# Altium integrated library TI Data Converters Digital to Analog Converter.IntLib: 1533 symbols (part 10 of 99)
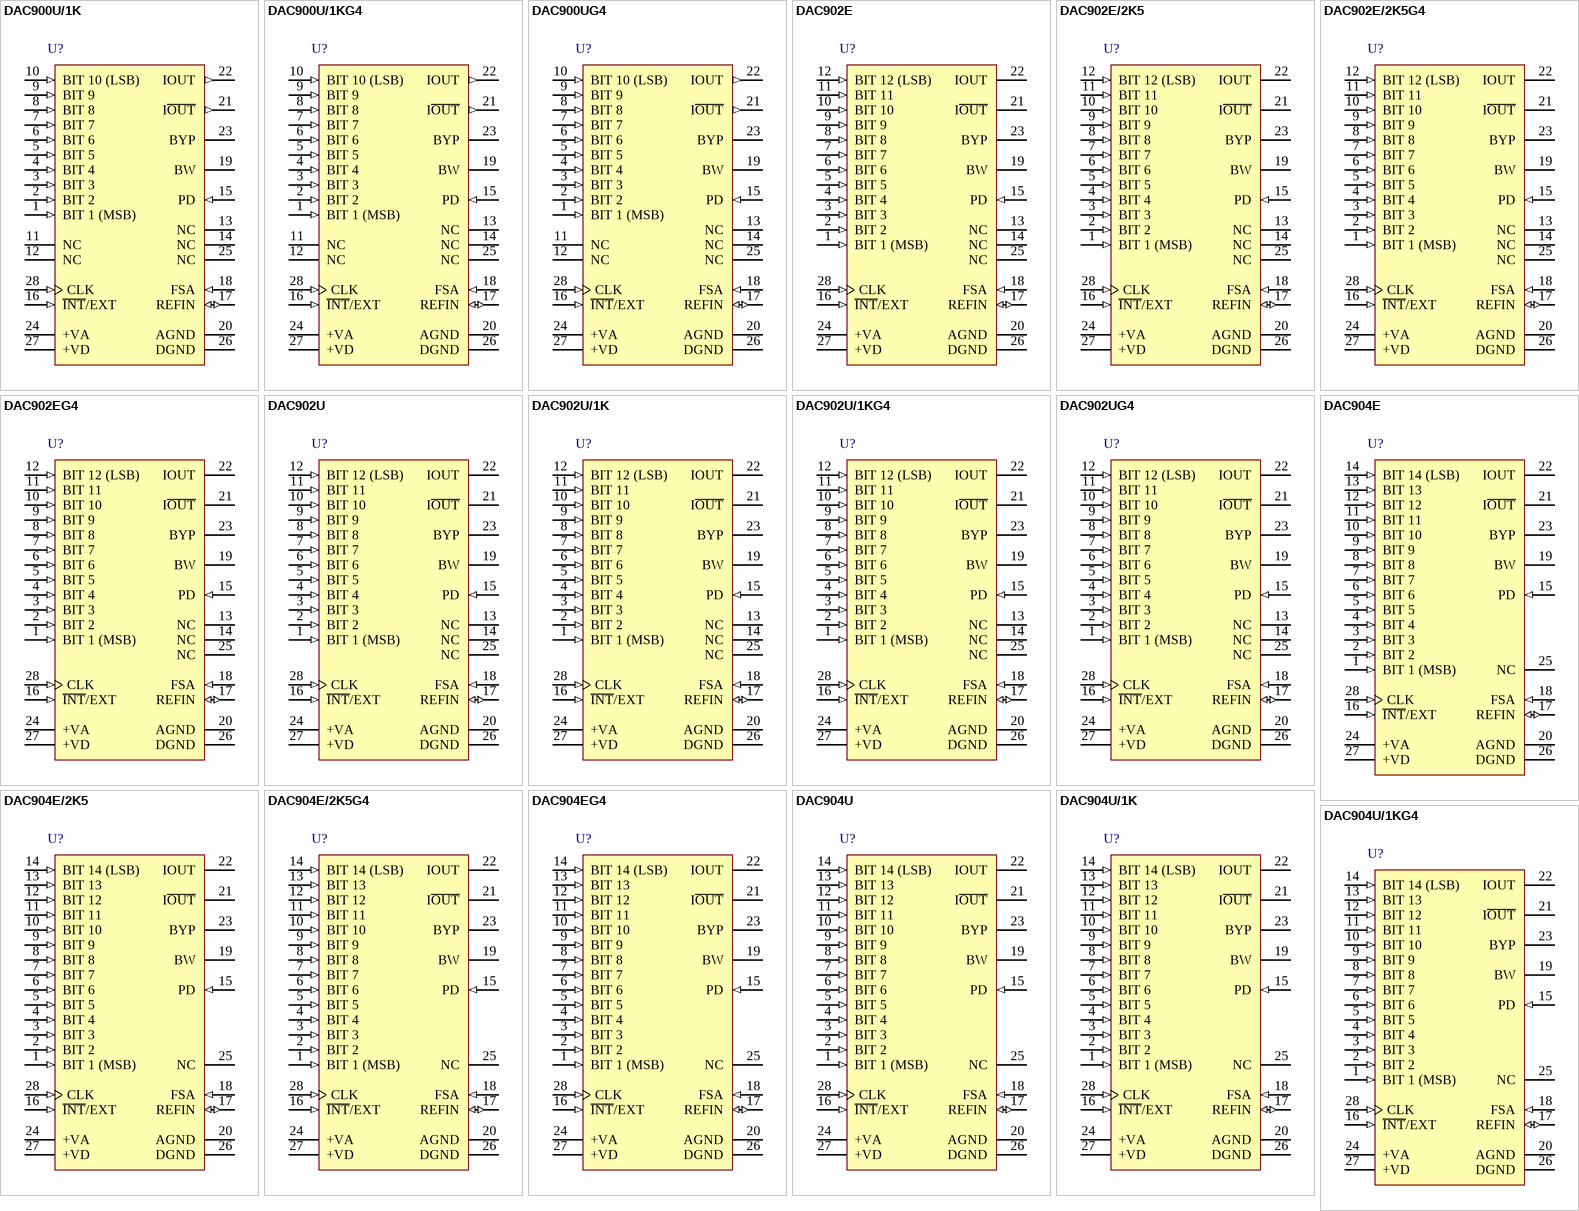
[diagram p82: symbols DAC900U/1K to DAC904U/1KG4]

## DAC904U/1KG4
designator U?
14-Bit, 165 MSPS SpeedPlus(TM) DAC Scalable Current Outputs between 2 to 20 mA, -40 to 85 degC, 28-pin SOIC (DW28), Green (RoHS & no Sb/Br); Manufacturer: Texas Instruments; PartNumber: DAC904U/1KG4; DAC Channels: 1; Interface: Parallel CMOS; Power Consumption(Typ)(mW): 170; Resolution(Bits): 14; Settling Time(us): 0.03; SFDR(dB): 76; SubFamily: High Speed DAC (>10MSPS); DatasheetVersion: SBAS095C; PackageVersion: 4040000-6/G, 01/2011; PackageReference: DW28; PackageDescription: 28-Pin Plastic Small Outline, Body 17.90 x 7.50 mm, Pitch 1.27 mm; Supplier 1: Digi-Key; Supplier Part Number 1: DAC904U/1KG4-ND; Supplier 2: Mouser; Supplier Part Number 2: 595-DAC904U/1KG4; Eco-Plan: Green (RoHS & no Sb/Br); Mounting Technology: Surface Mount; Code_JEDEC: MS-013; ComponentLink1Description: Manufacturer URL; ComponentLink1URL: http://www.ti.com/; ComponentLink2Description: Datasheet; ComponentLink2URL: http://www.ti.com/general/docs/lit/getliterature.tsp?genericPartNumber=DAC904&fileType=pdf; ComponentLink3Description: Package Specification; ComponentLink3URL: http://www.ti.com/lit/ml/mpds175a/mpds175a.pdf
footprint TI-DW28_N (SOIC, 28-Leads, Body 17.9x7.5mm, Pitch 1.27mm, IPC Medium Density)
footprint TI-DW28_L (SOIC, 28-Leads, Body 17.9x7.5mm, Pitch 1.27mm, IPC High Density)
footprint TI-DW28_M (SOIC, 28-Leads, Body 17.9x7.5mm, Pitch 1.27mm, IPC Low Density)
pins: 1 BIT 1 (MSB) (in) "Data Bit 1 (D13), MSB", 2 BIT 2 (in) "Data Bit 2 (D12)", 3 BIT 3 (in) "Data Bit 3 (D11)", 4 BIT 4 (in) "Data Bit 4 (D10)", 5 BIT 5 (in) "Data Bit 5 (D9)", 6 BIT 6 (in) "Data Bit 6 (D8)", 7 BIT 7 (in) "Data Bit 7 (D7)", 8 BIT 8 (in) "Data Bit 8 (D6)", 9 BIT 9 (in) "Data Bit 9 (D5)", 10 BIT 10 (in) "Data Bit 10 (D4)", 11 BIT 11 (in) "Data Bit 11 (D3)", 12 BIT 12 (in) "Data Bit 12 (D2)", 13 BIT 13 (in) "Data Bit 13 (D1)", 14 BIT 14 (LSB) (in) "Data Bit 14 (D0), LSB", 15 PD (in) "Power Down, Control Input; Active HIGH. Contains internal pull-down circuit; may be left unconnected if not used.", 16 ~{INT}/EXT (in) "Reference Select Pin; Internal ( = 0) or External ( = 1) Reference Operation", 17 REFIN (io) "Reference Input/Ouput. See Applications section for further details.", 18 FSA (in) "Full-Scale Output Adjust", 19 BW "Bandwidth/Noise Reduction Pin: Bypass with 0.1uF to +VA for Optimum Performance. (Optional)", 20 AGND (power) "Analog Ground", 21 I~{OUT} (hiz) "Complementary DAC Current Output", 22 IOUT (hiz) "DAC Current Output", 23 BYP "Bypass Node: Use 0.1uF to AGND", 24 +VA (power) "Analog Supply Voltage, 2.7V to 5.5V", 25 NC "No Internal Connection", 26 DGND (power) "Digital Ground", 27 +VD (power) "Digital Supply Voltage, 2.7V to 5.5V", 28 CLK (in) "Clock Input"

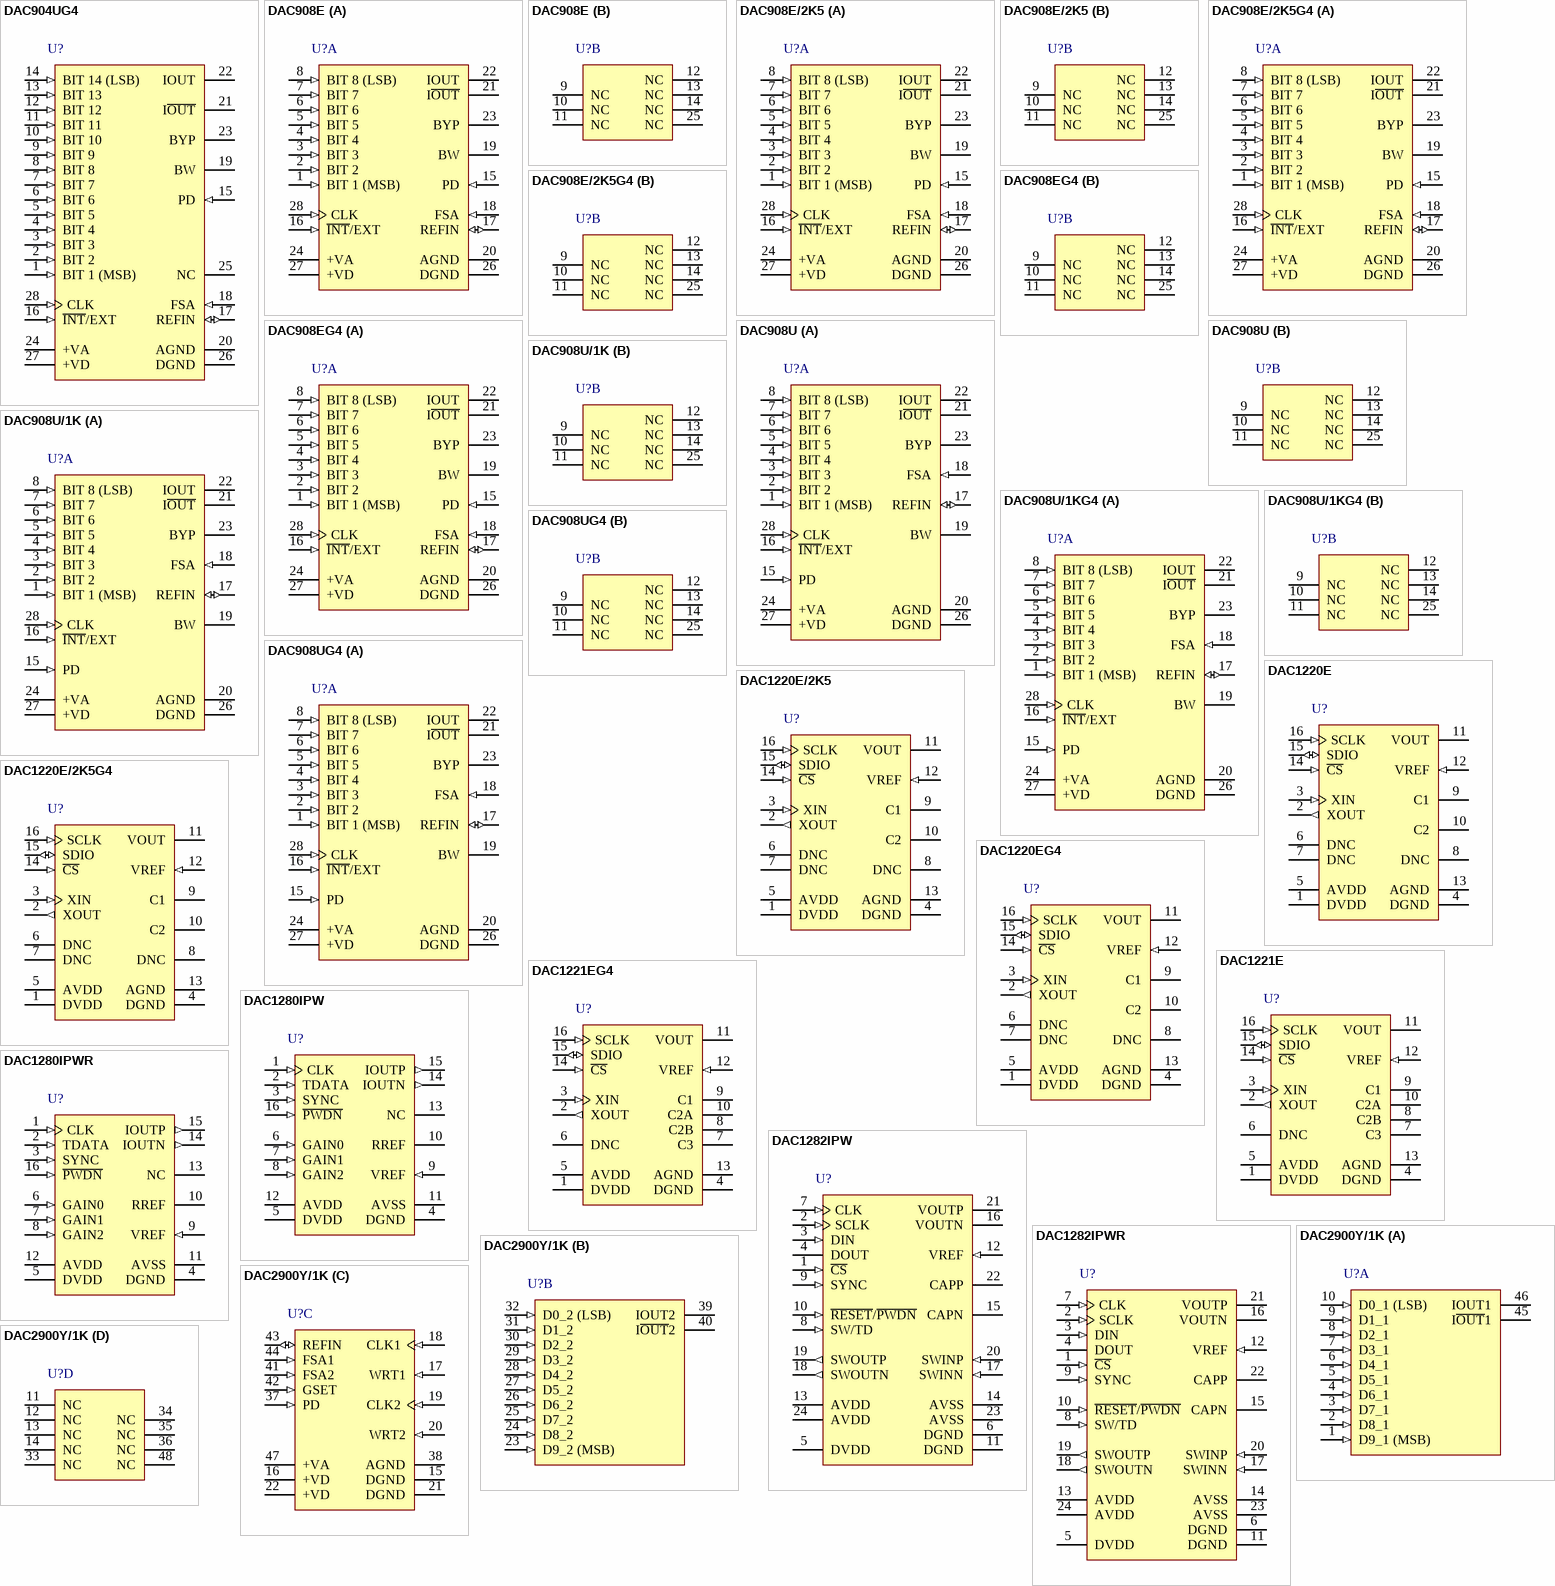
[diagram p8: symbols DAC904UG4 to DAC2900Y/1K]

## DAC904UG4
designator U?
14-Bit, 165 MSPS SpeedPlus(TM) DAC Scalable Current Outputs between 2 to 20 mA, -40 to 85 degC, 28-pin SOIC (DW28), Green (RoHS & no Sb/Br); Manufacturer: Texas Instruments; PartNumber: DAC904UG4; DAC Channels: 1; Interface: Parallel CMOS; Power Consumption(Typ)(mW): 170; Resolution(Bits): 14; Settling Time(us): 0.03; SFDR(dB): 76; SubFamily: High Speed DAC (>10MSPS); DatasheetVersion: SBAS095C; PackageVersion: 4040000-6/G, 01/2011; PackageReference: DW28; PackageDescription: 28-Pin Plastic Small Outline, Body 17.90 x 7.50 mm, Pitch 1.27 mm; Supplier 1: Digi-Key; Supplier Part Number 1: DAC904UG4-ND; Supplier 2: Farnell; Supplier Part Number 2: 1206885; Supplier 3: Newark; Supplier Part Number 3: 96K8429; Supplier 4: Mouser; Supplier Part Number 4: 595-DAC904UG4; Eco-Plan: Green (RoHS & no Sb/Br); Mounting Technology: Surface Mount; Code_JEDEC: MS-013; ComponentLink1Description: Manufacturer URL; ComponentLink1URL: http://www.ti.com/; ComponentLink2Description: Datasheet; ComponentLink2URL: http://www.ti.com/general/docs/lit/getliterature.tsp?genericPartNumber=DAC904&fileType=pdf; ComponentLink3Description: Package Specification; ComponentLink3URL: http://www.ti.com/lit/ml/mpds175a/mpds175a.pdf
footprint TI-DW28_N (SOIC, 28-Leads, Body 17.9x7.5mm, Pitch 1.27mm, IPC Medium Density)
footprint TI-DW28_L (SOIC, 28-Leads, Body 17.9x7.5mm, Pitch 1.27mm, IPC High Density)
footprint TI-DW28_M (SOIC, 28-Leads, Body 17.9x7.5mm, Pitch 1.27mm, IPC Low Density)
pins: 1 BIT 1 (MSB) (in) "Data Bit 1 (D13), MSB", 2 BIT 2 (in) "Data Bit 2 (D12)", 3 BIT 3 (in) "Data Bit 3 (D11)", 4 BIT 4 (in) "Data Bit 4 (D10)", 5 BIT 5 (in) "Data Bit 5 (D9)", 6 BIT 6 (in) "Data Bit 6 (D8)", 7 BIT 7 (in) "Data Bit 7 (D7)", 8 BIT 8 (in) "Data Bit 8 (D6)", 9 BIT 9 (in) "Data Bit 9 (D5)", 10 BIT 10 (in) "Data Bit 10 (D4)", 11 BIT 11 (in) "Data Bit 11 (D3)", 12 BIT 12 (in) "Data Bit 12 (D2)", 13 BIT 13 (in) "Data Bit 13 (D1)", 14 BIT 14 (LSB) (in) "Data Bit 14 (D0), LSB", 15 PD (in) "Power Down, Control Input; Active HIGH. Contains internal pull-down circuit; may be left unconnected if not used.", 16 ~{INT}/EXT (in) "Reference Select Pin; Internal ( = 0) or External ( = 1) Reference Operation", 17 REFIN (io) "Reference Input/Ouput. See Applications section for further details.", 18 FSA (in) "Full-Scale Output Adjust", 19 BW "Bandwidth/Noise Reduction Pin: Bypass with 0.1uF to +VA for Optimum Performance. (Optional)", 20 AGND (power) "Analog Ground", 21 I~{OUT} (hiz) "Complementary DAC Current Output", 22 IOUT (hiz) "DAC Current Output", 23 BYP "Bypass Node: Use 0.1uF to AGND", 24 +VA (power) "Analog Supply Voltage, 2.7V to 5.5V", 25 NC "No Internal Connection", 26 DGND (power) "Digital Ground", 27 +VD (power) "Digital Supply Voltage, 2.7V to 5.5V", 28 CLK (in) "Clock Input"

## DAC908E
designator U?
8-Bit, 165 MSPS SpeedPlus(TM) DAC Scalable Current Outputs between 2 to 20 mA, -40 to 85 degC, 28-pin SOP (PW28), Green (RoHS & no Sb/Br); Manufacturer: Texas Instruments; PartNumber: DAC908E; DAC Channels: 1; DNL(Max)(+/-LSB): 0.5; Interface: Parallel CMOS; Power Consumption(Typ)(mW): 170; Resolution(Bits): 8; Settling Time(us): 0.03; SFDR(dB): 67; SubFamily: High Speed DAC (>10MSPS); DatasheetVersion: SBAS109B; PackageVersion: 4040064-7/G, 02/2011; PackageReference: PW28; PackageDescription: 28-Pin Plastic Small Outline, Body 9.7 x 4.4 mm, Pitch 0.65 mm; Supplier 1: Digi-Key; Supplier Part Number 1: DAC908E-ND; Supplier 2: Newark; Supplier Part Number 2: 34K3179; Supplier 3: Mouser; Supplier Part Number 3: 595-DAC908E; Eco-Plan: Green (RoHS & no Sb/Br); INL(Max)(+/-LSB): 0.5; Mounting Technology: Surface Mount; Code_JEDEC: MO-153; ComponentLink1Description: Manufacturer URL; ComponentLink1URL: http://www.ti.com/; ComponentLink2Description: Datasheet; ComponentLink2URL: http://www.ti.com/general/docs/lit/getliterature.tsp?genericPartNumber=DAC908&fileType=pdf; ComponentLink3Description: Package Specification; ComponentLink3URL: http://www.ti.com/litv/pdf/mpds364
footprint TI-PW28_N (SOP, 28-Leads, Body 9.7x4.4mm, Pitch 0.65mm, IPC Medium Density)
footprint TI-PW28_L (SOP, 28-Leads, Body 9.7x4.4mm, Pitch 0.65mm, IPC High Density)
footprint TI-PW28_M (SOP, 28-Leads, Body 9.7x4.4mm, Pitch 0.65mm, IPC Low Density)
part A pins: 1 BIT 1 (MSB) (in) "Data Bit 1 (D7), MSB", 2 BIT 2 (in) "Data Bit 2 (D6)", 3 BIT 3 (in) "Data Bit 3 (D5)", 4 BIT 4 (in) "Data Bit 4 (D4)", 5 BIT 5 (in) "Data Bit 5 (D3)", 6 BIT 6 (in) "Data Bit 6 (D2)", 7 BIT 7 (in) "Data Bit 7 (D1)", 8 BIT 8 (LSB) (in) "Data Bit 8 (D0), LSB", 15 PD (in) "Power Down, Control Input; Active HIGH. Contains internal pull-down circuit; may be left unconnected if not used.", 16 ~{INT}/EXT (in) "Reference Select Pin; Internal ( = 0) or External ( = 1) Reference Operation.", 17 REFIN (io) "Reference Input/Ouput. See Applications section for further details.", 18 FSA (in) "Full-Scale Output Adjust", 19 BW "Bandwidth/Noise Reduction Pin: Bypass with 0.1uF to +VA for Optimum Performance.", 20 AGND (power) "Analog Ground", 21 I~{OUT} (hiz) "Complementary DAC Current Output", 22 IOUT (hiz) "DAC Current Output", 23 BYP "Bypass Node: Use 0.1uF to AGND", 24 +VA (power) "Analog Supply Voltage, 2.7V to 5.5V", 26 DGND (power) "Digital Ground", 27 +VD (power) "Digital Supply Voltage, 2.7V to 5.5V", 28 CLK (in) "Clock Input"
part B pins: 9 NC "No Connection", 10 NC "No Connection", 11 NC "No Connection", 12 NC "No Connection", 13 NC "No Connection", 14 NC "No Connection", 25 NC "No Connection"

## DAC908E/2K5
designator U?
8-Bit, 165 MSPS SpeedPlus(TM) DAC Scalable Current Outputs between 2 to 20 mA, -40 to 85 degC, 28-pin SOP (PW28), Green (RoHS & no Sb/Br); Manufacturer: Texas Instruments; PartNumber: DAC908E/2K5; DAC Channels: 1; DNL(Max)(+/-LSB): 0.5; Interface: Parallel CMOS; Power Consumption(Typ)(mW): 170; Resolution(Bits): 8; Settling Time(us): 0.03; SFDR(dB): 67; SubFamily: High Speed DAC (>10MSPS); DatasheetVersion: SBAS109B; PackageVersion: 4040064-7/G, 02/2011; PackageReference: PW28; PackageDescription: 28-Pin Plastic Small Outline, Body 9.7 x 4.4 mm, Pitch 0.65 mm; Supplier 1: Digi-Key; Supplier Part Number 1: DAC908E/2K5-ND; Supplier 2: Mouser; Supplier Part Number 2: 595-DAC908E/2K5; Eco-Plan: Green (RoHS & no Sb/Br); INL(Max)(+/-LSB): 0.5; Mounting Technology: Surface Mount; Code_JEDEC: MO-153; ComponentLink1Description: Manufacturer URL; ComponentLink1URL: http://www.ti.com/; ComponentLink2Description: Datasheet; ComponentLink2URL: http://www.ti.com/general/docs/lit/getliterature.tsp?genericPartNumber=DAC908&fileType=pdf; ComponentLink3Description: Package Specification; ComponentLink3URL: http://www.ti.com/litv/pdf/mpds364
footprint TI-PW28_N (SOP, 28-Leads, Body 9.7x4.4mm, Pitch 0.65mm, IPC Medium Density)
footprint TI-PW28_L (SOP, 28-Leads, Body 9.7x4.4mm, Pitch 0.65mm, IPC High Density)
footprint TI-PW28_M (SOP, 28-Leads, Body 9.7x4.4mm, Pitch 0.65mm, IPC Low Density)
part A pins: 1 BIT 1 (MSB) (in) "Data Bit 1 (D7), MSB", 2 BIT 2 (in) "Data Bit 2 (D6)", 3 BIT 3 (in) "Data Bit 3 (D5)", 4 BIT 4 (in) "Data Bit 4 (D4)", 5 BIT 5 (in) "Data Bit 5 (D3)", 6 BIT 6 (in) "Data Bit 6 (D2)", 7 BIT 7 (in) "Data Bit 7 (D1)", 8 BIT 8 (LSB) (in) "Data Bit 8 (D0), LSB", 15 PD (in) "Power Down, Control Input; Active HIGH. Contains internal pull-down circuit; may be left unconnected if not used.", 16 ~{INT}/EXT (in) "Reference Select Pin; Internal ( = 0) or External ( = 1) Reference Operation.", 17 REFIN (io) "Reference Input/Ouput. See Applications section for further details.", 18 FSA (in) "Full-Scale Output Adjust", 19 BW "Bandwidth/Noise Reduction Pin: Bypass with 0.1uF to +VA for Optimum Performance.", 20 AGND (power) "Analog Ground", 21 I~{OUT} (hiz) "Complementary DAC Current Output", 22 IOUT (hiz) "DAC Current Output", 23 BYP "Bypass Node: Use 0.1uF to AGND", 24 +VA (power) "Analog Supply Voltage, 2.7V to 5.5V", 26 DGND (power) "Digital Ground", 27 +VD (power) "Digital Supply Voltage, 2.7V to 5.5V", 28 CLK (in) "Clock Input"
part B pins: 9 NC "No Connection", 10 NC "No Connection", 11 NC "No Connection", 12 NC "No Connection", 13 NC "No Connection", 14 NC "No Connection", 25 NC "No Connection"

## DAC908E/2K5G4
designator U?
8-Bit, 165 MSPS SpeedPlus(TM) DAC Scalable Current Outputs between 2 to 20 mA, -40 to 85 degC, 28-pin SOP (PW28), Green (RoHS & no Sb/Br); Manufacturer: Texas Instruments; PartNumber: DAC908E/2K5G4; DAC Channels: 1; DNL(Max)(+/-LSB): 0.5; Interface: Parallel CMOS; Power Consumption(Typ)(mW): 170; Resolution(Bits): 8; Settling Time(us): 0.03; SFDR(dB): 67; SubFamily: High Speed DAC (>10MSPS); DatasheetVersion: SBAS109B; PackageVersion: 4040064-7/G, 02/2011; PackageReference: PW28; PackageDescription: 28-Pin Plastic Small Outline, Body 9.7 x 4.4 mm, Pitch 0.65 mm; Supplier 1: Digi-Key; Supplier Part Number 1: DAC908E/2K5G4-ND; Supplier 2: Mouser; Supplier Part Number 2: 595-DAC908E/2K5G4; Eco-Plan: Green (RoHS & no Sb/Br); INL(Max)(+/-LSB): 0.5; Mounting Technology: Surface Mount; Code_JEDEC: MO-153; ComponentLink1Description: Manufacturer URL; ComponentLink1URL: http://www.ti.com/; ComponentLink2Description: Datasheet; ComponentLink2URL: http://www.ti.com/general/docs/lit/getliterature.tsp?genericPartNumber=DAC908&fileType=pdf; ComponentLink3Description: Package Specification; ComponentLink3URL: http://www.ti.com/litv/pdf/mpds364
footprint TI-PW28_N (SOP, 28-Leads, Body 9.7x4.4mm, Pitch 0.65mm, IPC Medium Density)
footprint TI-PW28_L (SOP, 28-Leads, Body 9.7x4.4mm, Pitch 0.65mm, IPC High Density)
footprint TI-PW28_M (SOP, 28-Leads, Body 9.7x4.4mm, Pitch 0.65mm, IPC Low Density)
part A pins: 1 BIT 1 (MSB) (in) "Data Bit 1 (D7), MSB", 2 BIT 2 (in) "Data Bit 2 (D6)", 3 BIT 3 (in) "Data Bit 3 (D5)", 4 BIT 4 (in) "Data Bit 4 (D4)", 5 BIT 5 (in) "Data Bit 5 (D3)", 6 BIT 6 (in) "Data Bit 6 (D2)", 7 BIT 7 (in) "Data Bit 7 (D1)", 8 BIT 8 (LSB) (in) "Data Bit 8 (D0), LSB", 15 PD (in) "Power Down, Control Input; Active HIGH. Contains internal pull-down circuit; may be left unconnected if not used.", 16 ~{INT}/EXT (in) "Reference Select Pin; Internal ( = 0) or External ( = 1) Reference Operation.", 17 REFIN (io) "Reference Input/Ouput. See Applications section for further details.", 18 FSA (in) "Full-Scale Output Adjust", 19 BW "Bandwidth/Noise Reduction Pin: Bypass with 0.1uF to +VA for Optimum Performance.", 20 AGND (power) "Analog Ground", 21 I~{OUT} (hiz) "Complementary DAC Current Output", 22 IOUT (hiz) "DAC Current Output", 23 BYP "Bypass Node: Use 0.1uF to AGND", 24 +VA (power) "Analog Supply Voltage, 2.7V to 5.5V", 26 DGND (power) "Digital Ground", 27 +VD (power) "Digital Supply Voltage, 2.7V to 5.5V", 28 CLK (in) "Clock Input"
part B pins: 9 NC "No Connection", 10 NC "No Connection", 11 NC "No Connection", 12 NC "No Connection", 13 NC "No Connection", 14 NC "No Connection", 25 NC "No Connection"

## DAC908EG4
designator U?
8-Bit, 165 MSPS SpeedPlus(TM) DAC Scalable Current Outputs between 2 to 20 mA, -40 to 85 degC, 28-pin SOP (PW28), Green (RoHS & no Sb/Br); Manufacturer: Texas Instruments; PartNumber: DAC908EG4; DAC Channels: 1; DNL(Max)(+/-LSB): 0.5; Interface: Parallel CMOS; Power Consumption(Typ)(mW): 170; Resolution(Bits): 8; Settling Time(us): 0.03; SFDR(dB): 67; SubFamily: High Speed DAC (>10MSPS); DatasheetVersion: SBAS109B; PackageVersion: 4040064-7/G, 02/2011; PackageReference: PW28; PackageDescription: 28-Pin Plastic Small Outline, Body 9.7 x 4.4 mm, Pitch 0.65 mm; Supplier 1: Digi-Key; Supplier Part Number 1: DAC908EG4-ND; Supplier 2: Mouser; Supplier Part Number 2: 595-DAC908EG4; Eco-Plan: Green (RoHS & no Sb/Br); INL(Max)(+/-LSB): 0.5; Mounting Technology: Surface Mount; Code_JEDEC: MO-153; ComponentLink1Description: Manufacturer URL; ComponentLink1URL: http://www.ti.com/; ComponentLink2Description: Datasheet; ComponentLink2URL: http://www.ti.com/general/docs/lit/getliterature.tsp?genericPartNumber=DAC908&fileType=pdf; ComponentLink3Description: Package Specification; ComponentLink3URL: http://www.ti.com/litv/pdf/mpds364
footprint TI-PW28_N (SOP, 28-Leads, Body 9.7x4.4mm, Pitch 0.65mm, IPC Medium Density)
footprint TI-PW28_L (SOP, 28-Leads, Body 9.7x4.4mm, Pitch 0.65mm, IPC High Density)
footprint TI-PW28_M (SOP, 28-Leads, Body 9.7x4.4mm, Pitch 0.65mm, IPC Low Density)
part A pins: 1 BIT 1 (MSB) (in) "Data Bit 1 (D7), MSB", 2 BIT 2 (in) "Data Bit 2 (D6)", 3 BIT 3 (in) "Data Bit 3 (D5)", 4 BIT 4 (in) "Data Bit 4 (D4)", 5 BIT 5 (in) "Data Bit 5 (D3)", 6 BIT 6 (in) "Data Bit 6 (D2)", 7 BIT 7 (in) "Data Bit 7 (D1)", 8 BIT 8 (LSB) (in) "Data Bit 8 (D0), LSB", 15 PD (in) "Power Down, Control Input; Active HIGH. Contains internal pull-down circuit; may be left unconnected if not used.", 16 ~{INT}/EXT (in) "Reference Select Pin; Internal ( = 0) or External ( = 1) Reference Operation.", 17 REFIN (io) "Reference Input/Ouput. See Applications section for further details.", 18 FSA (in) "Full-Scale Output Adjust", 19 BW "Bandwidth/Noise Reduction Pin: Bypass with 0.1uF to +VA for Optimum Performance.", 20 AGND (power) "Analog Ground", 21 I~{OUT} (hiz) "Complementary DAC Current Output", 22 IOUT (hiz) "DAC Current Output", 23 BYP "Bypass Node: Use 0.1uF to AGND", 24 +VA (power) "Analog Supply Voltage, 2.7V to 5.5V", 26 DGND (power) "Digital Ground", 27 +VD (power) "Digital Supply Voltage, 2.7V to 5.5V", 28 CLK (in) "Clock Input"
part B pins: 9 NC "No Connection", 10 NC "No Connection", 11 NC "No Connection", 12 NC "No Connection", 13 NC "No Connection", 14 NC "No Connection", 25 NC "No Connection"

## DAC908U
designator U?
8-Bit, 165 MSPS SpeedPlus(TM) DAC Scalable Current Outputs between 2 to 20 mA, -40 to 85 degC, 28-pin SOIC (DW28), Green (RoHS & no Sb/Br); Manufacturer: Texas Instruments; PartNumber: DAC908U; DAC Channels: 1; DNL(Max)(+/-LSB): 0.5; Interface: Parallel CMOS; Power Consumption(Typ)(mW): 170; Resolution(Bits): 8; Settling Time(us): 0.03; SFDR(dB): 67; SubFamily: High Speed DAC (>10MSPS); DatasheetVersion: SBAS109B; PackageVersion: 4040000-6/G, 01/2011; PackageReference: DW28; PackageDescription: 28-Pin Plastic Small Outline, Body 17.90 x 7.50 mm, Pitch 1.27 mm; Supplier 1: Digi-Key; Supplier Part Number 1: DAC908U-ND; Supplier 2: Mouser; Supplier Part Number 2: 595-DAC908U; Eco-Plan: Green (RoHS & no Sb/Br); INL(Max)(+/-LSB): 0.5; Mounting Technology: Surface Mount; Code_JEDEC: MS-013; ComponentLink1Description: Manufacturer URL; ComponentLink1URL: http://www.ti.com/; ComponentLink2Description: Datasheet; ComponentLink2URL: http://www.ti.com/general/docs/lit/getliterature.tsp?genericPartNumber=DAC908&fileType=pdf; ComponentLink3Description: Package Specification; ComponentLink3URL: http://www.ti.com/lit/ml/mpds175a/mpds175a.pdf
footprint TI-DW28_N (SOIC, 28-Leads, Body 17.9x7.5mm, Pitch 1.27mm, IPC Medium Density)
footprint TI-DW28_L (SOIC, 28-Leads, Body 17.9x7.5mm, Pitch 1.27mm, IPC High Density)
footprint TI-DW28_M (SOIC, 28-Leads, Body 17.9x7.5mm, Pitch 1.27mm, IPC Low Density)
part A pins: 1 BIT 1 (MSB) (in) "Data Bit 1 (D7), MSB", 2 BIT 2 (in) "Data Bit 2 (D6)", 3 BIT 3 (in) "Data Bit 3 (D5)", 4 BIT 4 (in) "Data Bit 4 (D4)", 5 BIT 5 (in) "Data Bit 5 (D3)", 6 BIT 6 (in) "Data Bit 6 (D2)", 7 BIT 7 (in) "Data Bit 7 (D1)", 8 BIT 8 (LSB) (in) "Data Bit 8 (D0), LSB", 15 PD (in) "Power Down, Control Input; Active HIGH. Contains internal pull-down circuit; may be left unconnected if not used.", 16 ~{INT}/EXT (in) "Reference Select Pin; Internal (= 0) or External (= 1) Reference Operation.", 17 REFIN (io) "Reference Input/Ouput. See Applications section for further details.", 18 FSA (in) "Full-Scale Output Adjust", 19 BW "Bandwidth/Noise Reduction Pin: Bypass with 0.1uF to +VA for Optimum Performance.", 20 AGND (power) "Analog Ground", 21 I~{OUT} (hiz) "Complementary DAC Current Output", 22 IOUT (hiz) "DAC Current Output", 23 BYP "Bypass Node: Use 0.1uF to AGND", 24 +VA (power) "Analog Supply Voltage, 2.7V to 5.5V", 26 DGND (power) "Digital Ground", 27 +VD (power) "Digital Supply Voltage, 2.7V to 5.5V", 28 CLK (in) "Clock Input"
part B pins: 9 NC "No Connection", 10 NC "No Connection", 11 NC "No Connection", 12 NC "No Connection", 13 NC "No Connection", 14 NC "No Connection", 25 NC "No Connection"

## DAC908U/1K
designator U?
8-Bit, 165 MSPS SpeedPlus(TM) DAC Scalable Current Outputs between 2 to 20 mA, -40 to 85 degC, 28-pin SOIC (DW28), Green (RoHS & no Sb/Br); Manufacturer: Texas Instruments; PartNumber: DAC908U/1K; DAC Channels: 1; DNL(Max)(+/-LSB): 0.5; Interface: Parallel CMOS; Power Consumption(Typ)(mW): 170; Resolution(Bits): 8; Settling Time(us): 0.03; SFDR(dB): 67; SubFamily: High Speed DAC (>10MSPS); DatasheetVersion: SBAS109B; PackageVersion: 4040000-6/G, 01/2011; PackageReference: DW28; PackageDescription: 28-Pin Plastic Small Outline, Body 17.90 x 7.50 mm, Pitch 1.27 mm; Supplier 1: Digi-Key; Supplier Part Number 1: DAC908U/1K-ND; Supplier 2: Newark; Supplier Part Number 2: 74C9314; Supplier 3: Mouser; Supplier Part Number 3: 595-DAC908U/1K; Eco-Plan: Green (RoHS & no Sb/Br); INL(Max)(+/-LSB): 0.5; Mounting Technology: Surface Mount; Code_JEDEC: MS-013; ComponentLink1Description: Manufacturer URL; ComponentLink1URL: http://www.ti.com/; ComponentLink2Description: Datasheet; ComponentLink2URL: http://www.ti.com/general/docs/lit/getliterature.tsp?genericPartNumber=DAC908&fileType=pdf; ComponentLink3Description: Package Specification; ComponentLink3URL: http://www.ti.com/lit/ml/mpds175a/mpds175a.pdf
footprint TI-DW28_N (SOIC, 28-Leads, Body 17.9x7.5mm, Pitch 1.27mm, IPC Medium Density)
footprint TI-DW28_L (SOIC, 28-Leads, Body 17.9x7.5mm, Pitch 1.27mm, IPC High Density)
footprint TI-DW28_M (SOIC, 28-Leads, Body 17.9x7.5mm, Pitch 1.27mm, IPC Low Density)
part A pins: 1 BIT 1 (MSB) (in) "Data Bit 1 (D7), MSB", 2 BIT 2 (in) "Data Bit 2 (D6)", 3 BIT 3 (in) "Data Bit 3 (D5)", 4 BIT 4 (in) "Data Bit 4 (D4)", 5 BIT 5 (in) "Data Bit 5 (D3)", 6 BIT 6 (in) "Data Bit 6 (D2)", 7 BIT 7 (in) "Data Bit 7 (D1)", 8 BIT 8 (LSB) (in) "Data Bit 8 (D0), LSB", 15 PD (in) "Power Down, Control Input; Active HIGH. Contains internal pull-down circuit; may be left unconnected if not used.", 16 ~{INT}/EXT (in) "Reference Select Pin; Internal (= 0) or External (= 1) Reference Operation.", 17 REFIN (io) "Reference Input/Ouput. See Applications section for further details.", 18 FSA (in) "Full-Scale Output Adjust", 19 BW "Bandwidth/Noise Reduction Pin: Bypass with 0.1uF to +VA for Optimum Performance.", 20 AGND (power) "Analog Ground", 21 I~{OUT} (hiz) "Complementary DAC Current Output", 22 IOUT (hiz) "DAC Current Output", 23 BYP "Bypass Node: Use 0.1uF to AGND", 24 +VA (power) "Analog Supply Voltage, 2.7V to 5.5V", 26 DGND (power) "Digital Ground", 27 +VD (power) "Digital Supply Voltage, 2.7V to 5.5V", 28 CLK (in) "Clock Input"
part B pins: 9 NC "No Connection", 10 NC "No Connection", 11 NC "No Connection", 12 NC "No Connection", 13 NC "No Connection", 14 NC "No Connection", 25 NC "No Connection"

## DAC908U/1KG4
designator U?
8-Bit, 165 MSPS SpeedPlus(TM) DAC Scalable Current Outputs between 2 to 20 mA, -40 to 85 degC, 28-pin SOIC (DW28), Green (RoHS & no Sb/Br); Manufacturer: Texas Instruments; PartNumber: DAC908U/1KG4; DAC Channels: 1; DNL(Max)(+/-LSB): 0.5; Interface: Parallel CMOS; Power Consumption(Typ)(mW): 170; Resolution(Bits): 8; Settling Time(us): 0.03; SFDR(dB): 67; SubFamily: High Speed DAC (>10MSPS); DatasheetVersion: SBAS109B; PackageVersion: 4040000-6/G, 01/2011; PackageReference: DW28; PackageDescription: 28-Pin Plastic Small Outline, Body 17.90 x 7.50 mm, Pitch 1.27 mm; Supplier 1: Digi-Key; Supplier Part Number 1: DAC908U/1KG4-ND; Supplier 2: Mouser; Supplier Part Number 2: 595-DAC908U/1KG4; Eco-Plan: Green (RoHS & no Sb/Br); INL(Max)(+/-LSB): 0.5; Mounting Technology: Surface Mount; Code_JEDEC: MS-013; ComponentLink1Description: Manufacturer URL; ComponentLink1URL: http://www.ti.com/; ComponentLink2Description: Datasheet; ComponentLink2URL: http://www.ti.com/general/docs/lit/getliterature.tsp?genericPartNumber=DAC908&fileType=pdf; ComponentLink3Description: Package Specification; ComponentLink3URL: http://www.ti.com/lit/ml/mpds175a/mpds175a.pdf
footprint TI-DW28_N (SOIC, 28-Leads, Body 17.9x7.5mm, Pitch 1.27mm, IPC Medium Density)
footprint TI-DW28_L (SOIC, 28-Leads, Body 17.9x7.5mm, Pitch 1.27mm, IPC High Density)
footprint TI-DW28_M (SOIC, 28-Leads, Body 17.9x7.5mm, Pitch 1.27mm, IPC Low Density)
part A pins: 1 BIT 1 (MSB) (in) "Data Bit 1 (D7), MSB", 2 BIT 2 (in) "Data Bit 2 (D6)", 3 BIT 3 (in) "Data Bit 3 (D5)", 4 BIT 4 (in) "Data Bit 4 (D4)", 5 BIT 5 (in) "Data Bit 5 (D3)", 6 BIT 6 (in) "Data Bit 6 (D2)", 7 BIT 7 (in) "Data Bit 7 (D1)", 8 BIT 8 (LSB) (in) "Data Bit 8 (D0), LSB", 15 PD (in) "Power Down, Control Input; Active HIGH. Contains internal pull-down circuit; may be left unconnected if not used.", 16 ~{INT}/EXT (in) "Reference Select Pin; Internal (= 0) or External (= 1) Reference Operation.", 17 REFIN (io) "Reference Input/Ouput. See Applications section for further details.", 18 FSA (in) "Full-Scale Output Adjust", 19 BW "Bandwidth/Noise Reduction Pin: Bypass with 0.1uF to +VA for Optimum Performance.", 20 AGND (power) "Analog Ground", 21 I~{OUT} (hiz) "Complementary DAC Current Output", 22 IOUT (hiz) "DAC Current Output", 23 BYP "Bypass Node: Use 0.1uF to AGND", 24 +VA (power) "Analog Supply Voltage, 2.7V to 5.5V", 26 DGND (power) "Digital Ground", 27 +VD (power) "Digital Supply Voltage, 2.7V to 5.5V", 28 CLK (in) "Clock Input"
part B pins: 9 NC "No Connection", 10 NC "No Connection", 11 NC "No Connection", 12 NC "No Connection", 13 NC "No Connection", 14 NC "No Connection", 25 NC "No Connection"

## DAC908UG4
designator U?
8-Bit, 165 MSPS SpeedPlus(TM) DAC Scalable Current Outputs between 2 to 20 mA, -40 to 85 degC, 28-pin SOIC (DW28), Green (RoHS & no Sb/Br); Manufacturer: Texas Instruments; PartNumber: DAC908UG4; DAC Channels: 1; DNL(Max)(+/-LSB): 0.5; Interface: Parallel CMOS; Power Consumption(Typ)(mW): 170; Resolution(Bits): 8; Settling Time(us): 0.03; SFDR(dB): 67; SubFamily: High Speed DAC (>10MSPS); DatasheetVersion: SBAS109B; PackageVersion: 4040000-6/G, 01/2011; PackageReference: DW28; PackageDescription: 28-Pin Plastic Small Outline, Body 17.90 x 7.50 mm, Pitch 1.27 mm; Supplier 1: Digi-Key; Supplier Part Number 1: DAC908UG4-ND; Supplier 2: Farnell; Supplier Part Number 2: 1206887; Supplier 3: Mouser; Supplier Part Number 3: 595-DAC908UG4; Eco-Plan: Green (RoHS & no Sb/Br); INL(Max)(+/-LSB): 0.5; Mounting Technology: Surface Mount; Code_JEDEC: MS-013; ComponentLink1Description: Manufacturer URL; ComponentLink1URL: http://www.ti.com/; ComponentLink2Description: Datasheet; ComponentLink2URL: http://www.ti.com/general/docs/lit/getliterature.tsp?genericPartNumber=DAC908&fileType=pdf; ComponentLink3Description: Package Specification; ComponentLink3URL: http://www.ti.com/lit/ml/mpds175a/mpds175a.pdf
footprint TI-DW28_N (SOIC, 28-Leads, Body 17.9x7.5mm, Pitch 1.27mm, IPC Medium Density)
footprint TI-DW28_L (SOIC, 28-Leads, Body 17.9x7.5mm, Pitch 1.27mm, IPC High Density)
footprint TI-DW28_M (SOIC, 28-Leads, Body 17.9x7.5mm, Pitch 1.27mm, IPC Low Density)
part A pins: 1 BIT 1 (MSB) (in) "Data Bit 1 (D7), MSB", 2 BIT 2 (in) "Data Bit 2 (D6)", 3 BIT 3 (in) "Data Bit 3 (D5)", 4 BIT 4 (in) "Data Bit 4 (D4)", 5 BIT 5 (in) "Data Bit 5 (D3)", 6 BIT 6 (in) "Data Bit 6 (D2)", 7 BIT 7 (in) "Data Bit 7 (D1)", 8 BIT 8 (LSB) (in) "Data Bit 8 (D0), LSB", 15 PD (in) "Power Down, Control Input; Active HIGH. Contains internal pull-down circuit; may be left unconnected if not used.", 16 ~{INT}/EXT (in) "Reference Select Pin; Internal (= 0) or External (= 1) Reference Operation.", 17 REFIN (io) "Reference Input/Ouput. See Applications section for further details.", 18 FSA (in) "Full-Scale Output Adjust", 19 BW "Bandwidth/Noise Reduction Pin: Bypass with 0.1uF to +VA for Optimum Performance.", 20 AGND (power) "Analog Ground", 21 I~{OUT} (hiz) "Complementary DAC Current Output", 22 IOUT (hiz) "DAC Current Output", 23 BYP "Bypass Node: Use 0.1uF to AGND", 24 +VA (power) "Analog Supply Voltage, 2.7V to 5.5V", 26 DGND (power) "Digital Ground", 27 +VD (power) "Digital Supply Voltage, 2.7V to 5.5V", 28 CLK (in) "Clock Input"
part B pins: 9 NC "No Connection", 10 NC "No Connection", 11 NC "No Connection", 12 NC "No Connection", 13 NC "No Connection", 14 NC "No Connection", 25 NC "No Connection"

## DAC1220E
designator U?
20-Bit Delta-Sigma Low Power DAC, -40 to 85 degC, 16-pin SOP (DBQ16), Green (RoHS & no Sb/Br); Manufacturer: Texas Instruments; PartNumber: DAC1220E; DAC Channels: 1; Interface: Serial SPI; Power Consumption(Typ)(mW): 2.5; Resolution(Bits): 20; Settling Time(us): 2000; SubFamily: Precision DAC (=<10MSPS); DatasheetVersion: SBAS082G; PackageVersion: 4073301-2/H, 10/2008; PackageReference: DBQ16; PackageDescription: 16-Pin Plastic Small Outline, Body 3.9 x 4.9 mm, Pitch 0.635 mm; Supplier 1: Digi-Key; Supplier Part Number 1: DAC1220E-ND; Supplier 2: Farnell; Supplier Part Number 2: 1097447; Supplier 3: Newark; Supplier Part Number 3: 74K3713; Supplier 4: Mouser; Supplier Part Number 4: 595-DAC1220E; DNL(Max)(+/-LSB): 1; Eco-Plan: Green (RoHS & no Sb/Br); INL(Max)(+/-LSB): 1; Mounting Technology: Surface Mount; Code_JEDEC: MO-137; ComponentLink1Description: Manufacturer URL; ComponentLink1URL: http://www.ti.com/; ComponentLink2Description: Datasheet; ComponentLink2URL: http://www.ti.com/general/docs/lit/getliterature.tsp?genericPartNumber=DAC1220&fileType=pdf; ComponentLink3Description: Package Specification; ComponentLink3URL: http://www.ti.com/litv/pdf/msoi004g
footprint TI-DBQ16_N (SOP, 16-Leads, Body 4.9x3.9mm, Pitch 0.635mm, IPC Medium Density)
footprint TI-DBQ16_L (SOP, 16-Leads, Body 4.9x3.9mm, Pitch 0.635mm, IPC High Density)
footprint TI-DBQ16_M (SOP, 16-Leads, Body 4.9x3.9mm, Pitch 0.635mm, IPC Low Density)
pins: 1 DVDD (power) "Digital Supply, +3V nominal", 2 XOUT (out) "System Clock Output", 3 XIN (in) "System Clock Input", 4 DGND (power) "Digital Ground", 5 AVDD (power) "Analog Supply, +3V nominal", 6 DNC "Do Not Connect", 7 DNC "Do Not Connect", 8 DNC "Do Not Connect", 9 C1 "Filter capacitor", 10 C2 "Filter capacitor", 11 VOUT (hiz) "Analog Output Voltage", 12 VREF (in) "Reference Input", 13 AGND (power) "Analog Ground", 14 ~{CS} (in) "Chip Select Input", 15 SDIO (io) "Serial Data Input/Output", 16 SCLK (in) "Clock Input for Serial Data Transfer"

## DAC1220E/2K5
designator U?
20-Bit Delta-Sigma Low Power DAC, -40 to 85 degC, 16-pin SOP (DBQ16), Green (RoHS & no Sb/Br); Manufacturer: Texas Instruments; PartNumber: DAC1220E/2K5; DAC Channels: 1; Interface: Serial SPI; Power Consumption(Typ)(mW): 2.5; Resolution(Bits): 20; Settling Time(us): 2000; SubFamily: Precision DAC (=<10MSPS); DatasheetVersion: SBAS082G; PackageVersion: 4073301-2/H, 10/2008; PackageReference: DBQ16; PackageDescription: 16-Pin Plastic Small Outline, Body 3.9 x 4.9 mm, Pitch 0.635 mm; Supplier 1: Digi-Key; Supplier Part Number 1: DAC1220E/2K5-ND; Supplier 2: Newark; Supplier Part Number 2: 74C9112; Supplier 3: Mouser; Supplier Part Number 3: 595-DAC1220E/2K5; DNL(Max)(+/-LSB): 1; Eco-Plan: Green (RoHS & no Sb/Br); INL(Max)(+/-LSB): 1; Mounting Technology: Surface Mount; Code_JEDEC: MO-137; ComponentLink1Description: Manufacturer URL; ComponentLink1URL: http://www.ti.com/; ComponentLink2Description: Datasheet; ComponentLink2URL: http://www.ti.com/general/docs/lit/getliterature.tsp?genericPartNumber=DAC1220&fileType=pdf; ComponentLink3Description: Package Specification; ComponentLink3URL: http://www.ti.com/litv/pdf/msoi004g
footprint TI-DBQ16_N (SOP, 16-Leads, Body 4.9x3.9mm, Pitch 0.635mm, IPC Medium Density)
footprint TI-DBQ16_L (SOP, 16-Leads, Body 4.9x3.9mm, Pitch 0.635mm, IPC High Density)
footprint TI-DBQ16_M (SOP, 16-Leads, Body 4.9x3.9mm, Pitch 0.635mm, IPC Low Density)
pins: 1 DVDD (power) "Digital Supply, +3V nominal", 2 XOUT (out) "System Clock Output", 3 XIN (in) "System Clock Input", 4 DGND (power) "Digital Ground", 5 AVDD (power) "Analog Supply, +3V nominal", 6 DNC "Do Not Connect", 7 DNC "Do Not Connect", 8 DNC "Do Not Connect", 9 C1 "Filter capacitor", 10 C2 "Filter capacitor", 11 VOUT (hiz) "Analog Output Voltage", 12 VREF (in) "Reference Input", 13 AGND (power) "Analog Ground", 14 ~{CS} (in) "Chip Select Input", 15 SDIO (io) "Serial Data Input/Output", 16 SCLK (in) "Clock Input for Serial Data Transfer"

## DAC1220E/2K5G4
designator U?
20-Bit Delta-Sigma Low Power DAC, -40 to 85 degC, 16-pin SOP (DBQ16), Green (RoHS & no Sb/Br); Manufacturer: Texas Instruments; PartNumber: DAC1220E/2K5G4; DAC Channels: 1; Interface: Serial SPI; Power Consumption(Typ)(mW): 2.5; Resolution(Bits): 20; Settling Time(us): 2000; SubFamily: Precision DAC (=<10MSPS); DatasheetVersion: SBAS082G; PackageVersion: 4073301-2/H, 10/2008; PackageReference: DBQ16; PackageDescription: 16-Pin Plastic Small Outline, Body 3.9 x 4.9 mm, Pitch 0.635 mm; Supplier 1: Digi-Key; Supplier Part Number 1: DAC1220E/2K5G4-ND; Supplier 2: Newark; Supplier Part Number 2: 28K3011; Supplier 3: Mouser; Supplier Part Number 3: 595-DAC1220E/2K5G4; DNL(Max)(+/-LSB): 1; Eco-Plan: Green (RoHS & no Sb/Br); INL(Max)(+/-LSB): 1; Mounting Technology: Surface Mount; Code_JEDEC: MO-137; ComponentLink1Description: Manufacturer URL; ComponentLink1URL: http://www.ti.com/; ComponentLink2Description: Datasheet; ComponentLink2URL: http://www.ti.com/general/docs/lit/getliterature.tsp?genericPartNumber=DAC1220&fileType=pdf; ComponentLink3Description: Package Specification; ComponentLink3URL: http://www.ti.com/litv/pdf/msoi004g
footprint TI-DBQ16_N (SOP, 16-Leads, Body 4.9x3.9mm, Pitch 0.635mm, IPC Medium Density)
footprint TI-DBQ16_L (SOP, 16-Leads, Body 4.9x3.9mm, Pitch 0.635mm, IPC High Density)
footprint TI-DBQ16_M (SOP, 16-Leads, Body 4.9x3.9mm, Pitch 0.635mm, IPC Low Density)
pins: 1 DVDD (power) "Digital Supply, +3V nominal", 2 XOUT (out) "System Clock Output", 3 XIN (in) "System Clock Input", 4 DGND (power) "Digital Ground", 5 AVDD (power) "Analog Supply, +3V nominal", 6 DNC "Do Not Connect", 7 DNC "Do Not Connect", 8 DNC "Do Not Connect", 9 C1 "Filter capacitor", 10 C2 "Filter capacitor", 11 VOUT (hiz) "Analog Output Voltage", 12 VREF (in) "Reference Input", 13 AGND (power) "Analog Ground", 14 ~{CS} (in) "Chip Select Input", 15 SDIO (io) "Serial Data Input/Output", 16 SCLK (in) "Clock Input for Serial Data Transfer"

## DAC1220EG4
designator U?
20-Bit Delta-Sigma Low Power DAC, -40 to 85 degC, 16-pin SOP (DBQ16), Green (RoHS & no Sb/Br); Manufacturer: Texas Instruments; PartNumber: DAC1220EG4; DAC Channels: 1; Interface: Serial SPI; Power Consumption(Typ)(mW): 2.5; Resolution(Bits): 20; Settling Time(us): 2000; SubFamily: Precision DAC (=<10MSPS); DatasheetVersion: SBAS082G; PackageVersion: 4073301-2/H, 10/2008; PackageReference: DBQ16; PackageDescription: 16-Pin Plastic Small Outline, Body 3.9 x 4.9 mm, Pitch 0.635 mm; Supplier 1: Digi-Key; Supplier Part Number 1: DAC1220EG4-ND; Supplier 2: Newark; Supplier Part Number 2: 73K7711; Supplier 3: Mouser; Supplier Part Number 3: 595-DAC1220EG4; DNL(Max)(+/-LSB): 1; Eco-Plan: Green (RoHS & no Sb/Br); INL(Max)(+/-LSB): 1; Mounting Technology: Surface Mount; Code_JEDEC: MO-137; ComponentLink1Description: Manufacturer URL; ComponentLink1URL: http://www.ti.com/; ComponentLink2Description: Datasheet; ComponentLink2URL: http://www.ti.com/general/docs/lit/getliterature.tsp?genericPartNumber=DAC1220&fileType=pdf; ComponentLink3Description: Package Specification; ComponentLink3URL: http://www.ti.com/litv/pdf/msoi004g
footprint TI-DBQ16_N (SOP, 16-Leads, Body 4.9x3.9mm, Pitch 0.635mm, IPC Medium Density)
footprint TI-DBQ16_L (SOP, 16-Leads, Body 4.9x3.9mm, Pitch 0.635mm, IPC High Density)
footprint TI-DBQ16_M (SOP, 16-Leads, Body 4.9x3.9mm, Pitch 0.635mm, IPC Low Density)
pins: 1 DVDD (power) "Digital Supply, +3V nominal", 2 XOUT (out) "System Clock Output", 3 XIN (in) "System Clock Input", 4 DGND (power) "Digital Ground", 5 AVDD (power) "Analog Supply, +3V nominal", 6 DNC "Do Not Connect", 7 DNC "Do Not Connect", 8 DNC "Do Not Connect", 9 C1 "Filter capacitor", 10 C2 "Filter capacitor", 11 VOUT (hiz) "Analog Output Voltage", 12 VREF (in) "Reference Input", 13 AGND (power) "Analog Ground", 14 ~{CS} (in) "Chip Select Input", 15 SDIO (io) "Serial Data Input/Output", 16 SCLK (in) "Clock Input for Serial Data Transfer"

## DAC1221E
designator U?
16-Bit Delta-Sigma Low Power DAC, -40 to 85 degC, 16-pin SOP (DBQ16), Green (RoHS & no Sb/Br); Manufacturer: Texas Instruments; PartNumber: DAC1221E; DAC Channels: 1; INL(Max)(+/-LSB): 2; Interface: Serial SPI; Power Consumption(Typ)(mW): 1.2; Resolution(Bits): 16; Settling Time(us): 2000; SubFamily: Precision DAC (=<10MSPS); DatasheetVersion: SBAS113; PackageVersion: 4073301-2/H, 10/2008; PackageReference: DBQ16; PackageDescription: 16-Pin Plastic Small Outline, Body 3.9 x 4.9 mm, Pitch 0.635 mm; Supplier 1: Digi-Key; Supplier Part Number 1: DAC1221E-ND; Supplier 2: Newark; Supplier Part Number 2: 74C9113; Supplier 3: Mouser; Supplier Part Number 3: 595-DAC1221E; DNL(Max)(+/-LSB): 1; Eco-Plan: Green (RoHS & no Sb/Br); Mounting Technology: Surface Mount; Code_JEDEC: MO-137; ComponentLink1Description: Manufacturer URL; ComponentLink1URL: http://www.ti.com/; ComponentLink2Description: Datasheet; ComponentLink2URL: http://www.ti.com/general/docs/lit/getliterature.tsp?genericPartNumber=DAC1221&fileType=pdf; ComponentLink3Description: Package Specification; ComponentLink3URL: http://www.ti.com/litv/pdf/msoi004g
footprint TI-DBQ16_N (SOP, 16-Leads, Body 4.9x3.9mm, Pitch 0.635mm, IPC Medium Density)
footprint TI-DBQ16_L (SOP, 16-Leads, Body 4.9x3.9mm, Pitch 0.635mm, IPC High Density)
footprint TI-DBQ16_M (SOP, 16-Leads, Body 4.9x3.9mm, Pitch 0.635mm, IPC Low Density)
pins: 1 DVDD (power) "Digital Supply, +3V nominal", 2 XOUT (out) "Digital, System Clock Output", 3 XIN (in) "Digital, System Clock Input", 4 DGND (power) "Digital Ground", 5 AVDD (power) "Analog Supply, +3V nominal", 6 DNC "Do Not Connect", 7 C3 "Analog, Filter Capacitor", 8 C2B "Analog, Filter Capacitor", 9 C1 "Analog, Filter Capacitor", 10 C2A "Analog, Filter Capacitor", 11 VOUT (hiz) "Analog Output Voltage", 12 VREF (in) "Analog, Reference Input", 13 AGND (power) "Analog Ground", 14 ~{CS} (in) "Digital, Chip Select Input", 15 SDIO (io) "Digital, Serial Data Input/Output", 16 SCLK (in) "Digital, Clock Input for Serial Data Transfer"

## DAC1221EG4
designator U?
16-Bit Delta-Sigma Low Power DAC, -40 to 85 degC, 16-pin SOP (DBQ16), Green (RoHS & no Sb/Br); Manufacturer: Texas Instruments; PartNumber: DAC1221EG4; DAC Channels: 1; INL(Max)(+/-LSB): 2; Interface: Serial SPI; Power Consumption(Typ)(mW): 1.2; Resolution(Bits): 16; Settling Time(us): 2000; SubFamily: Precision DAC (=<10MSPS); DatasheetVersion: SBAS113; PackageVersion: 4073301-2/H, 10/2008; PackageReference: DBQ16; PackageDescription: 16-Pin Plastic Small Outline, Body 3.9 x 4.9 mm, Pitch 0.635 mm; Supplier 1: Digi-Key; Supplier Part Number 1: DAC1221EG4-ND; Supplier 2: Newark; Supplier Part Number 2: 41M3133; Supplier 3: Mouser; Supplier Part Number 3: 595-DAC1221EG4; DNL(Max)(+/-LSB): 1; Eco-Plan: Green (RoHS & no Sb/Br); Mounting Technology: Surface Mount; Code_JEDEC: MO-137; ComponentLink1Description: Manufacturer URL; ComponentLink1URL: http://www.ti.com/; ComponentLink2Description: Datasheet; ComponentLink2URL: http://www.ti.com/general/docs/lit/getliterature.tsp?genericPartNumber=DAC1221&fileType=pdf; ComponentLink3Description: Package Specification; ComponentLink3URL: http://www.ti.com/litv/pdf/msoi004g
footprint TI-DBQ16_N (SOP, 16-Leads, Body 4.9x3.9mm, Pitch 0.635mm, IPC Medium Density)
footprint TI-DBQ16_L (SOP, 16-Leads, Body 4.9x3.9mm, Pitch 0.635mm, IPC High Density)
footprint TI-DBQ16_M (SOP, 16-Leads, Body 4.9x3.9mm, Pitch 0.635mm, IPC Low Density)
pins: 1 DVDD (power) "Digital Supply, +3V nominal", 2 XOUT (out) "Digital, System Clock Output", 3 XIN (in) "Digital, System Clock Input", 4 DGND (power) "Digital Ground", 5 AVDD (power) "Analog Supply, +3V nominal", 6 DNC "Do Not Connect", 7 C3 "Analog, Filter Capacitor", 8 C2B "Analog, Filter Capacitor", 9 C1 "Analog, Filter Capacitor", 10 C2A "Analog, Filter Capacitor", 11 VOUT (hiz) "Analog Output Voltage", 12 VREF (in) "Analog, Reference Input", 13 AGND (power) "Analog Ground", 14 ~{CS} (in) "Digital, Chip Select Input", 15 SDIO (io) "Digital, Serial Data Input/Output", 16 SCLK (in) "Digital, Clock Input for Serial Data Transfer"

## DAC1280IPW
designator U?
Very Low Distortion DAC for Seismic Application, -40 to 85 degC, 16-pin SOP (PW16), Green (RoHS & no Sb/Br); Manufacturer: Texas Instruments; PartNumber: DAC1280IPW; DAC Channels: 1; Interface: Bitstream; Power Consumption(Typ)(mW): 18; Settling Time(us): 100; SNR(dB): 120; SubFamily: Precision DAC (=<10MSPS); DatasheetVersion: SBAS432A; PackageVersion: 4040064-4/G, 02/2011; PackageReference: PW16; PackageDescription: 16-Pin Plastic Small Outline, Body 5 x 4.4 mm, Pitch 0.65 mm; Supplier 1: Digi-Key; Supplier Part Number 1: 296-33251-5-ND; Supplier 2: Farnell; Supplier Part Number 2: 1864812; Supplier 3: Newark; Supplier Part Number 3: 01T0025; Supplier 4: Mouser; Supplier Part Number 4: 595-DAC1280IPW; Eco-Plan: Green (RoHS & no Sb/Br); Mounting Technology: Surface Mount; Code_JEDEC: MO-153; ComponentLink1Description: Manufacturer URL; ComponentLink1URL: http://www.ti.com/; ComponentLink2Description: Datasheet; ComponentLink2URL: http://www.ti.com/general/docs/lit/getliterature.tsp?genericPartNumber=DAC1280&fileType=pdf; ComponentLink3Description: Package Specification; ComponentLink3URL: http://www.ti.com/lit/ml/mpds361/mpds361.pdf
footprint TI-PW16_N (SOP, 16-Leads, Body 5x4.4mm, Pitch 0.65mm, IPC Medium Density)
footprint TI-PW16_L (SOP, 16-Leads, Body 5x4.4mm, Pitch 0.65mm, IPC High Density)
footprint TI-PW16_M (SOP, 16-Leads, Body 5x4.4mm, Pitch 0.65mm, IPC Low Density)
pins: 1 CLK (in) "4.096MHz master clock", 2 TDATA (in) "Bitstream digital data", 3 SYNC (in) "Synchronize control", 4 DGND (power) "Digital ground", 5 DVDD (power) "Digital power supply", 6 GAIN0 (in) "Gain select 0", 7 GAIN1 (in) "Gain select 1", 8 GAIN2 (in) "Gain select 2", 9 VREF (in) "Voltage reference input", 10 RREF "Full-scale range resistor", 11 AVSS (power) "Negative analog power supply, VREF common, RREF common", 12 AVDD (power) "Positive analog power supply", 13 NC "No connection; do not connect externally.", 14 IOUTN (out) "Negative signal output current", 15 IOUTP (out) "Positive signal output current", 16 ~{PWDN} (in) "Power-down control; active low"

## DAC1280IPWR
designator U?
Very Low Distortion DAC for Seismic Application, -40 to 85 degC, 16-pin SOP (PW16), Green (RoHS & no Sb/Br); Manufacturer: Texas Instruments; PartNumber: DAC1280IPWR; DAC Channels: 1; Interface: Bitstream; Power Consumption(Typ)(mW): 18; Settling Time(us): 100; SNR(dB): 120; SubFamily: Precision DAC (=<10MSPS); DatasheetVersion: SBAS432A; PackageVersion: 4040064-4/G, 02/2011; PackageReference: PW16; PackageDescription: 16-Pin Plastic Small Outline, Body 5 x 4.4 mm, Pitch 0.65 mm; Supplier 1: Digi-Key; Supplier Part Number 1: 296-27869-2-ND; Supplier 2: Digi-Key; Supplier Part Number 2: 296-27869-1-ND; Supplier 3: Digi-Key; Supplier Part Number 3: 296-27869-6-ND; Supplier 4: Mouser; Supplier Part Number 4: 595-DAC1280IPWR; Eco-Plan: Green (RoHS & no Sb/Br); Mounting Technology: Surface Mount; Code_JEDEC: MO-153; ComponentLink1Description: Manufacturer URL; ComponentLink1URL: http://www.ti.com/; ComponentLink2Description: Datasheet; ComponentLink2URL: http://www.ti.com/general/docs/lit/getliterature.tsp?genericPartNumber=DAC1280&fileType=pdf; ComponentLink3Description: Package Specification; ComponentLink3URL: http://www.ti.com/lit/ml/mpds361/mpds361.pdf
footprint TI-PW16_N (SOP, 16-Leads, Body 5x4.4mm, Pitch 0.65mm, IPC Medium Density)
footprint TI-PW16_L (SOP, 16-Leads, Body 5x4.4mm, Pitch 0.65mm, IPC High Density)
footprint TI-PW16_M (SOP, 16-Leads, Body 5x4.4mm, Pitch 0.65mm, IPC Low Density)
pins: 1 CLK (in) "4.096MHz master clock", 2 TDATA (in) "Bitstream digital data", 3 SYNC (in) "Synchronize control", 4 DGND (power) "Digital ground", 5 DVDD (power) "Digital power supply", 6 GAIN0 (in) "Gain select 0", 7 GAIN1 (in) "Gain select 1", 8 GAIN2 (in) "Gain select 2", 9 VREF (in) "Voltage reference input", 10 RREF "Full-scale range resistor", 11 AVSS (power) "Negative analog power supply, VREF common, RREF common", 12 AVDD (power) "Positive analog power supply", 13 NC "No connection; do not connect externally.", 14 IOUTN (out) "Negative signal output current", 15 IOUTP (out) "Positive signal output current", 16 ~{PWDN} (in) "Power-down control; active low"

## DAC1282IPW
designator U?
Low Distortion DAC for Seismic Application, -40 to 85 degC, 24-pin SOP (PW24), Green (RoHS & no Sb/Br); Manufacturer: Texas Instruments; PartNumber: DAC1282IPW; DAC Channels: 1; Interface: Serial SPI; Power Consumption(Typ)(mW): 38; Settling Time(us): 25; SNR(dB): 120; SubFamily: Precision DAC (=<10MSPS); DatasheetVersion: SBAS490A; PackageVersion: 4040064-6/G, 02/2011; PackageReference: PW24; PackageDescription: 24-Pin Plastic Small Outline, Body 7.8 x 4.4 mm, Pitch 0.65 mm; Supplier 1: Digi-Key; Supplier Part Number 1: DAC1282IPW-ND; Supplier 2: Newark; Supplier Part Number 2: 76T4684; Supplier 3: Mouser; Supplier Part Number 3: 595-DAC1282IPW; Eco-Plan: Green (RoHS & no Sb/Br); Mounting Technology: Surface Mount; Code_JEDEC: MO-153; ComponentLink1Description: Manufacturer URL; ComponentLink1URL: http://www.ti.com/; ComponentLink2Description: Datasheet; ComponentLink2URL: http://www.ti.com/general/docs/lit/getliterature.tsp?genericPartNumber=DAC1282&fileType=pdf; ComponentLink3Description: Package Specification; ComponentLink3URL: http://www.ti.com/litv/pdf/mpds363
footprint TI-PW24_N (SOP, 24-Leads, Body 7.8x4.4mm, Pitch 0.65mm, IPC Medium Density)
footprint TI-PW24_L (SOP, 24-Leads, Body 7.8x4.4mm, Pitch 0.65mm, IPC High Density)
footprint TI-PW24_M (SOP, 24-Leads, Body 7.8x4.4mm, Pitch 0.65mm, IPC Low Density)
pins: 1 ~{CS} (in) "Serial port chip select", 2 SCLK (in) "Serial port shift clock", 3 DIN (in) "Serial port data input", 4 DOUT (hiz) "Serial port data output", 5 DVDD (power) "Digital power supply: 1.65 V to 3.6 V", 6 DGND (power) "Key digital ground", 7 CLK (in) "Master clock 4.096 MHz", 8 SW/TD (in) "Switch control input or bitstream input", 9 SYNC (in) "Synchronize input", 10 ~{RESET}/~{PWDN} (in) "Reset/power-down input", 11 DGND (power) "Digital ground", 12 VREF (in) "Reference voltage input", 13 AVDD (power) "Analog positive power supply", 14 AVSS (power) "Analog negative power supply, reference ground", 15 CAPN "External capacitor connected to VOUTN", 16 VOUTN (hiz) "Negative voltage output", 17 SWINN (in) "Switch negative input", 18 SWOUTN (out) "Switch negative output", 19 SWOUTP (out) "Switch positive output", 20 SWINP (in) "Switch positive input", 21 VOUTP (hiz) "Positive voltage output", 22 CAPP "External capacitor connected to VOUTP", 23 AVSS (power) "Analog negative power supply", 24 AVDD (power) "Analog positive power supply"

## DAC1282IPWR
designator U?
Low Distortion DAC for Seismic Application, -40 to 85 degC, 24-pin SOP (PW24), Green (RoHS & no Sb/Br); Manufacturer: Texas Instruments; PartNumber: DAC1282IPWR; DAC Channels: 1; Interface: Serial SPI; Power Consumption(Typ)(mW): 38; Settling Time(us): 25; SNR(dB): 120; SubFamily: Precision DAC (=<10MSPS); DatasheetVersion: SBAS490A; PackageVersion: 4040064-6/G, 02/2011; PackageReference: PW24; PackageDescription: 24-Pin Plastic Small Outline, Body 7.8 x 4.4 mm, Pitch 0.65 mm; Supplier 1: Digi-Key; Supplier Part Number 1: DAC1282IPWR-ND; Supplier 2: Mouser; Supplier Part Number 2: 595-DAC1282IPWR; Eco-Plan: Green (RoHS & no Sb/Br); Mounting Technology: Surface Mount; Code_JEDEC: MO-153; ComponentLink1Description: Manufacturer URL; ComponentLink1URL: http://www.ti.com/; ComponentLink2Description: Datasheet; ComponentLink2URL: http://www.ti.com/general/docs/lit/getliterature.tsp?genericPartNumber=DAC1282&fileType=pdf; ComponentLink3Description: Package Specification; ComponentLink3URL: http://www.ti.com/litv/pdf/mpds363
footprint TI-PW24_N (SOP, 24-Leads, Body 7.8x4.4mm, Pitch 0.65mm, IPC Medium Density)
footprint TI-PW24_L (SOP, 24-Leads, Body 7.8x4.4mm, Pitch 0.65mm, IPC High Density)
footprint TI-PW24_M (SOP, 24-Leads, Body 7.8x4.4mm, Pitch 0.65mm, IPC Low Density)
pins: 1 ~{CS} (in) "Serial port chip select", 2 SCLK (in) "Serial port shift clock", 3 DIN (in) "Serial port data input", 4 DOUT (hiz) "Serial port data output", 5 DVDD (power) "Digital power supply: 1.65 V to 3.6 V", 6 DGND (power) "Key digital ground", 7 CLK (in) "Master clock 4.096 MHz", 8 SW/TD (in) "Switch control input or bitstream input", 9 SYNC (in) "Synchronize input", 10 ~{RESET}/~{PWDN} (in) "Reset/power-down input", 11 DGND (power) "Digital ground", 12 VREF (in) "Reference voltage input", 13 AVDD (power) "Analog positive power supply", 14 AVSS (power) "Analog negative power supply, reference ground", 15 CAPN "External capacitor connected to VOUTN", 16 VOUTN (hiz) "Negative voltage output", 17 SWINN (in) "Switch negative input", 18 SWOUTN (out) "Switch negative output", 19 SWOUTP (out) "Switch positive output", 20 SWINP (in) "Switch positive input", 21 VOUTP (hiz) "Positive voltage output", 22 CAPP "External capacitor connected to VOUTP", 23 AVSS (power) "Analog negative power supply", 24 AVDD (power) "Analog positive power supply"